# Altium schematic symbol library conn_header_mini_st.SchLib: 36 symbols
Pins are listed as number, name and electrical type; pins without a type are passive.

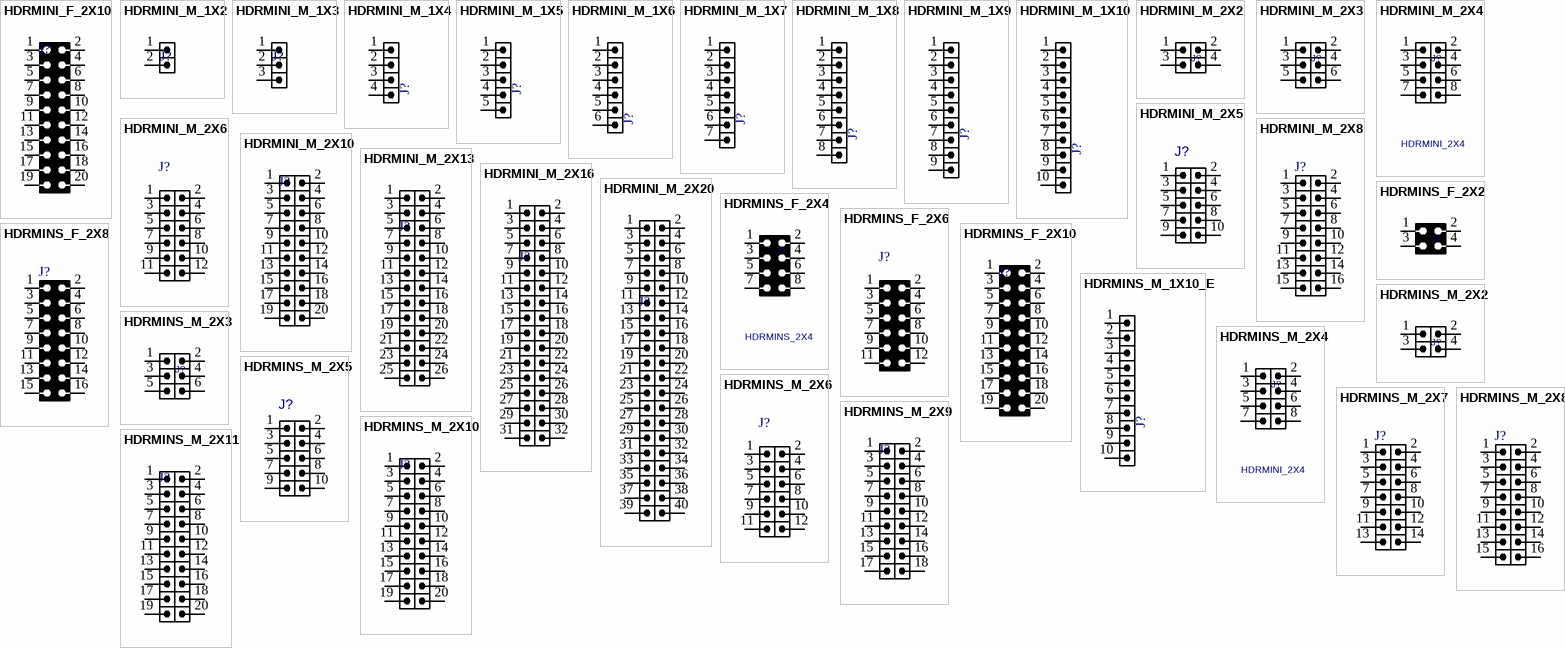
[diagram p0: symbols HDRMINI_F_2X10 to HDRMINS_M_2X11]

## HDRMINI_F_2X10
designator J?, comment HDRMINI_2X10  (value not drawn)
CONN, HEADER, Female, pitch: 1.27mm, 20POS; VALUE: HDRMINI_2X10
footprint HDRMINI_F_2X10 (FCI Minitek127® BTB, HEADER UNSHROUDED, 20   Part Number:  20021311-00020T4LF)
pins: 1, 2, 3, 4, 5, 6, 7, 8, 9, 10, 11, 12, 13, 14, 15, 16, 17, 18, 19, 20

## HDRMINI_M_1X2
designator J?, comment HDRMINI_2  (value not drawn)
CONN, HEADER, Male, pitch: 1.27mm, 2POS; VALUE: HDRMINI_2
footprint HDRMINI_M_1X2 (mini header (50mil pitch))
pins: 1, 2

## HDRMINI_M_1X3
designator J?, comment HDRMINI_3  (value not drawn)
CONN, HEADER, Male, pitch: 1.27mm, 3POS; VALUE: HDRMINI_3
footprint HDRMINI_M_1X3 (mini header (50mil pitch))
pins: 1, 2, 3

## HDRMINI_M_1X4
designator J?, comment HDR1X4  (value not drawn)
CONN, HEADER, Male, pitch: 1.27mm, 4POS; VALUE: HDRMINI_4
footprint HDRMINI_M_1X4 (mini header (50mil pitch))
pins: 1, 2, 3, 4

## HDRMINI_M_1X5
designator J?, comment HDR1X5  (value not drawn)
CONN, HEADER, Male, pitch: 1.27mm, 5POS; VALUE: HDRMINI_5
footprint HDRMINI_M_1X5 (mini header (50mil pitch))
pins: 1, 2, 3, 4, 5

## HDRMINI_M_1X6
designator J?, comment HDR1X6  (value not drawn)
CONN, HEADER, Male, pitch: 1.27mm, 6POS; VALUE: HDRMINI_6
footprint HDRMINI_M_1X6 (mini header (50mil pitch))
pins: 1, 2, 3, 4, 5, 6

## HDRMINI_M_1X7
designator J?, comment HDR1X7  (value not drawn)
CONN, HEADER, Male, pitch: 1.27mm, 7POS; VALUE: HDRMINI_7
footprint HDRMINI_M_1X7 (mini header (50mil pitch))
pins: 1, 2, 3, 4, 5, 6, 7

## HDRMINI_M_1X8
designator J?, comment HDR1X8  (value not drawn)
CONN, HEADER, Male, pitch: 1.27mm, 8POS; VALUE: HDRMINI_8
footprint HDRMINI_M_1X8 (mini header (50mil pitch))
pins: 1, 2, 3, 4, 5, 6, 7, 8

## HDRMINI_M_1X9
designator J?, comment HDR1X9  (value not drawn)
CONN, HEADER, Male, pitch: 1.27mm, 9POS; VALUE: HDRMINI_9
footprint HDRMINI_M_1X9 (mini header (50mil pitch))
pins: 1, 2, 3, 4, 5, 6, 7, 8, 9

## HDRMINI_M_1X10
designator J?, comment HDR1X10  (value not drawn)
CONN, HEADER, Male, pitch: 1.27mm, 10POS; VALUE: HDRMINI_10
footprint HDRMINI_M_1X10 (mini header (50mil pitch))
pins: 1, 2, 3, 4, 5, 6, 7, 8, 9, 10

## HDRMINI_M_2X2
designator J?, comment HDRMINI_2X2  (value not drawn)
CONN, HEADER, Male, pitch: 1.27mm, 4POS; MANF_P#: MANF_PART#; MANF: MANF; VALUE: HDRMINI_2X2
footprint HDRMINI_M_2X2 (mini header (50mil pitch))
pins: 1, 2, 3, 4

## HDRMINI_M_2X3
designator J?, comment HDRMINI_2X3  (value not drawn)
CONN, HEADER, Male, pitch: 1.27mm, 6POS; MANF_P#: MANF_PART#; MANF: MANF; VALUE: HDRMINI_2X3
footprint HDRMINI_M_2X3 (mini header (50mil pitch))
pins: 1, 2, 3, 4, 5, 6

## HDRMINI_M_2X4
designator J?, comment HDRMINI_2X4
CONN, HEADER, Male, pitch: 1.27mm, 8POS; MANF_P#: MANF_PART#; MANF: MANF; VALUE: HDRMINI_2X4
footprint HDRMINI_M_2X4 (mini header (50mil pitch))
pins: 1, 2, 3, 4, 5, 6, 7, 8

## HDRMINI_M_2X5
designator J?, comment HDRMINI_2X5  (value not drawn)
CONN, HEADER, Male, pitch: 1.27mm, 10POS; VALUE: HDRMINI_2X5
footprint HDRMINI_M_2X5 (mini header (50mil pitch))
pins: 1, 2, 3, 4, 5, 6, 7, 8, 9, 10

## HDRMINI_M_2X6
designator J?, comment HDRMINI_2X6  (value not drawn)
CONN, HEADER, Male, pitch: 1.27mm, 14POS; VALUE: HDRMINI_2X6
footprint HDRMINI_M_2X6 (mini header (50mil pitch))
pins: 1, 2, 3, 4, 5, 6, 7, 8, 9, 10, 11, 12

## HDRMINI_M_2X8
designator J?, comment HDRMINI_2X8  (value not drawn)
CONN, HEADER, Male, pitch: 1.27mm, 16POS; VALUE: HDRMINI_2X8
footprint HDRMINI_M_2X8 (mini header (50mil pitch))
pins: 1, 2, 3, 4, 5, 6, 7, 8, 9, 10, 11, 12, 13, 14, 15, 16

## HDRMINI_M_2X10
designator J?, comment HDRMINI_2X10  (value not drawn)
CONN, HEADER, Male, pitch: 1.27mm, 20POS; VALUE: HDRMINI_2X10
footprint HDRMINI_M_2X10 (mini header (50mil pitch))
pins: 1, 2, 3, 4, 5, 6, 7, 8, 9, 10, 11, 12, 13, 14, 15, 16, 17, 18, 19, 20

## HDRMINI_M_2X13
designator J?, comment HDRMINI_2X13  (value not drawn)
CONN, HEADER, Male, pitch: 1.27mm, 26POS; VALUE: HDRMINI_2X13
footprint HDRMINI_M_2X13 (mini header (50mil pitch))
pins: 1, 2, 3, 4, 5, 6, 7, 8, 9, 10, 11, 12, 13, 14, 15, 16, 17, 18, 19, 20, 21, 22, 23, 24, 25, 26

## HDRMINI_M_2X16
designator J?, comment HDRMINI_2X16  (value not drawn)
CONN, HEADER, Male, pitch: 1.27mm, 32POS; VALUE: HDRMINI_2X16
footprint HDRMINI_M_2X16 (mini header (50mil pitch))
pins: 1, 2, 3, 4, 5, 6, 7, 8, 9, 10, 11, 12, 13, 14, 15, 16, 17, 18, 19, 20, 21, 22, 23, 24, 25, 26, 27, 28, 29, 30, 31, 32

## HDRMINI_M_2X20
designator J?, comment HDRMINI_2X20  (value not drawn)
CONN, HEADER, Male, pitch: 1.27mm, 40POS; VALUE: HDRMINI_2X20
footprint HDRMINI_M_2X20 (mini header (50mil pitch))
pins: 1, 2, 3, 4, 5, 6, 7, 8, 9, 10, 11, 12, 13, 14, 15, 16, 17, 18, 19, 20, 21, 22, 23, 24, 25, 26, 27, 28, 29, 30, 31, 32, 33, 34, 35, 36, 37, 38, 39, 40

## HDRMINS_F_2X2
designator J?, comment HDRMINS_2X2  (value not drawn)
CONN, HEADER, Female, pitch: 1.27mm, 4POS, SMD; MANF_P#: MANF_PART#; MANF: MANF; VALUE: HDRMINS_2X2
footprint HDRMINS_F_2X2 (HEADER FEMALE, SMT, 4, 1.27mm)
pins: 1, 2, 3, 4

## HDRMINS_F_2X4
designator J?, comment HDRMINS_2X4
CONN, HEADER, Female, pitch: 1.27mm, 8POS, SMD; MANF_P#: MANF_PART#; MANF: MANF; VALUE: HDRMINS_2X4
footprint HDRMINS_F_2X4 (HEADER FEMALE, SMT, 8, 1.27mm)
pins: 1, 2, 3, 4, 5, 6, 7, 8

## HDRMINS_F_2X6
designator J?, comment HDRMINS_2X6  (value not drawn)
CONN, HEADER, Female, pitch: 1.27mm, 12POS, SMD; VALUE: HDRMINS_2X6
footprint HDRMINS_F_2X6 (HEADER FEMALE, SMT, 12, 1.27mm)
pins: 1, 2, 3, 4, 5, 6, 7, 8, 9, 10, 11, 12

## HDRMINS_F_2X8
designator J?, comment HDRMINS_2X8  (value not drawn)
CONN, HEADER, Female, pitch: 1.27mm, 16POS, SMD; VALUE: HDRMINS_2X8
footprint HDRMINS_F_2X8 (HEADER FEMALE, SMT, 16, 1.27mm)
pins: 1, 2, 3, 4, 5, 6, 7, 8, 9, 10, 11, 12, 13, 14, 15, 16

## HDRMINS_F_2X10
designator J?, comment HDRMINS_2X10  (value not drawn)
CONN, HEADER, Female, pitch: 1.27mm, 20POS, SMD; VALUE: HDRMINS_2X10
footprint HDRMINS_F_2X10 (HEADER FEMALE, SMT, 20, 1.27mm)
pins: 1, 2, 3, 4, 5, 6, 7, 8, 9, 10, 11, 12, 13, 14, 15, 16, 17, 18, 19, 20

## HDRMINS_M_1X10_E
designator J?, comment HDR1X10  (value not drawn)
CONN, HEADER, Male, pitch: 1.27mm, 10POS, SMD Edge of board; VALUE: HDRMINI_10
footprint HDRMINS_M_1X10_E (mini header (50mil pitch))
pins: 1, 2, 3, 4, 5, 6, 7, 8, 9, 10

## HDRMINS_M_2X2
designator J?, comment HDRMINI_2X2  (value not drawn)
CONN, HEADER, Male, pitch: 1.27mm, 4POS, SMD; MANF_P#: 20021121-00004D4LF; MANF: FCI; VALUE: HDRMINI_2X2
footprint HDRMINS_M_2X2 (FCI Minitek127® BTB, HEADER UNSHROUDED, SMT, 4, 1.27mm)
pins: 1, 2, 3, 4

## HDRMINS_M_2X3
designator J?, comment HDRMINI_2X3  (value not drawn)
CONN, HEADER, Male, pitch: 1.27mm, 6POS, SMD; MANF_P#: MANF_PART#; MANF: MANF; VALUE: HDRMINI_2X3
footprint HDRMINS_M_2X3 (FCI Minitek127® BTB, HEADER UNSHROUDED, SMT, 6, 1.27mm)
pins: 1, 2, 3, 4, 5, 6

## HDRMINS_M_2X4
designator J?, comment HDRMINI_2X4
CONN, HEADER, Male, pitch: 1.27mm, 8POS, SMD; MANF_P#: 20021111-00008T4LF; MANF: FCI; VALUE: HDRMINI_2X4; PRICE: 0.5$
footprint HDRMINS_M_2X4 (FCI Minitek127® BTB, HEADER UNSHROUDED, SMT, 8, 1.27mm)
pins: 1, 2, 3, 4, 5, 6, 7, 8

## HDRMINS_M_2X5
designator J?, comment HDRMINI_2X5  (value not drawn)
CONN, HEADER, Male, pitch: 1.27mm, 10POS, SMD; VALUE: HDRMINI_2X5
footprint HDRMINS_M_2X5 (FCI Minitek127® BTB, HEADER UNSHROUDED, SMT, 10, 1.27mm)
pins: 1, 2, 3, 4, 5, 6, 7, 8, 9, 10

## HDRMINS_M_2X6
designator J?, comment HDRMINI_2X6  (value not drawn)
CONN, HEADER, Male, pitch: 1.27mm, 14POS, SMD; MANF: FCI; MANF_P#: 20021111-00012T4LF; VALUE: HDRMINI_2X6; PRICE: 0.8$
footprint HDRMINS_M_2X6 (FCI Minitek127® BTB, HEADER UNSHROUDED, SMT, 12, 1.27mm)
pins: 1, 2, 3, 4, 5, 6, 7, 8, 9, 10, 11, 12

## HDRMINS_M_2X7
designator J?, comment HDRMINI_2X7  (value not drawn)
CONN, HEADER, Male, pitch: 1.27mm, 14POS, SMD; VALUE: HDRMINI_2X7
footprint HDRMINS_M_2X7 (FCI Minitek127® BTB, HEADER UNSHROUDED, SMT, 14, 1.27mm)
pins: 1, 2, 3, 4, 5, 6, 7, 8, 9, 10, 11, 12, 13, 14

## HDRMINS_M_2X8
designator J?, comment HDRMINI_2X8  (value not drawn)
CONN, HEADER, Male, pitch: 1.27mm, 16POS, SMD; MANF: FCI; MANF_P#: 20021111-00016T4LF; VALUE: HDRMINI_2X8; PRICE: 0.9$
footprint HDRMINS_M_2X8 (FCI Minitek127® BTB, HEADER UNSHROUDED, SMT, 16, 1.27mm)
pins: 1, 2, 3, 4, 5, 6, 7, 8, 9, 10, 11, 12, 13, 14, 15, 16

## HDRMINS_M_2X9
designator J?, comment HDRMINI_2X9  (value not drawn)
CONN, HEADER, Male, pitch: 1.27mm, 18POS, SMD; VALUE: HDRMINI_2X9
footprint HDRMINS_M_2X9 (FCI Minitek127® BTB, HEADER UNSHROUDED, SMT, 18, 1.27mm)
pins: 1, 2, 3, 4, 5, 6, 7, 8, 9, 10, 11, 12, 13, 14, 15, 16, 17, 18

## HDRMINS_M_2X10
designator J?, comment HDRMINI_2X10  (value not drawn)
CONN, HEADER, Male, pitch: 1.27mm, 20POS, SMD; MANF: FCI; MANF_P#: 20021121-00020D4LF; VALUE: HDRMINI_2X10; PRICE: 1.1$
footprint HDRMINS_M_2X10 (FCI Minitek127® BTB, HEADER UNSHROUDED, SMT, 20   Part Number: 2002112100020D4LF)
pins: 1, 2, 3, 4, 5, 6, 7, 8, 9, 10, 11, 12, 13, 14, 15, 16, 17, 18, 19, 20

## HDRMINS_M_2X11
designator J?, comment HDRMINI_2X10  (value not drawn)
CONN, HEADER, Male, pitch: 1.27mm, 20POS, SMD; MANF: FCI; MANF_P#: 20021121-00022D4LF; VALUE: HDRMINI_2X10; PRICE: 1.1$
footprint HDRMINS_M_2X10 (FCI Minitek127® BTB, HEADER UNSHROUDED, SMT, 20   Part Number: 2002112100020D4LF)
pins: 1, 2, 3, 4, 5, 6, 7, 8, 9, 10, 11, 12, 13, 14, 15, 16, 17, 18, 19, 20